# EAGLE library part MC145026 (library #PaJa_31)
IO pro DO - vysilac
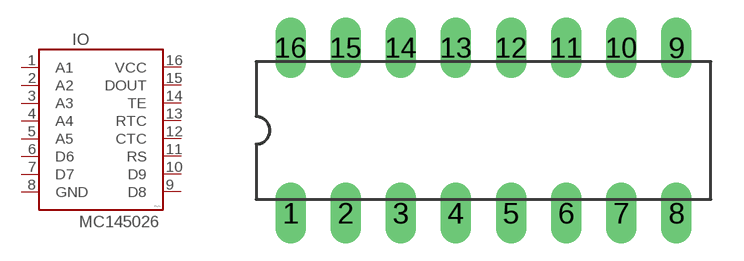
[diagram p48: symbol with the pads of DIL16; footprint DIL16]

Designator prefix IO

## MC145026  [DIL16]
1  A1  pas
2  A2  pas
3  A3  pas
4  A4  pas
5  A5  pas
6  D6  pas
7  D7  pas
8  GND  pwr
9  D8  pas
10  D9  pas
11  RS  pas
12  CTC  pas
13  RTC  pas
14  TE  pas
15  DOUT  pas
16  VCC  pwr

## Footprint DIL16 (pad centres in mm)
drill 0.813 pad 1.4 long: 1 -8.89,-3.81; 2 -6.35,-3.81; 3 -3.81,-3.81; 4 -1.27,-3.81; 5 1.27,-3.81; 6 3.81,-3.81; 7 6.35,-3.81; 8 8.89,-3.81; 9 8.89,3.81; 10 6.35,3.81; 11 3.81,3.81; 12 1.27,3.81; 13 -1.27,3.81; 14 -3.81,3.81; 15 -6.35,3.81; 16 -8.89,3.81